# EAGLE library part TIA (library crasbe)
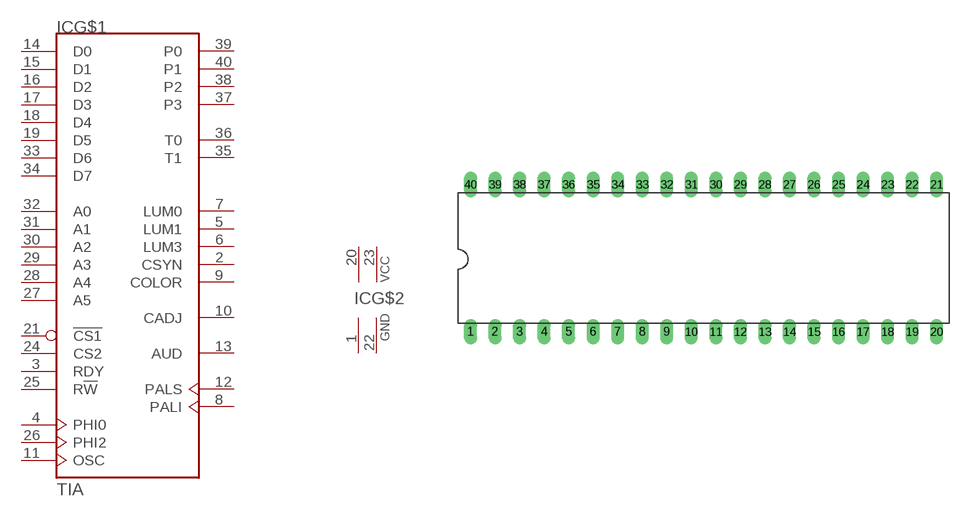
[diagram p35: symbol with the pads of DIL40; footprint DIL40]

Designator prefix IC; gates G$1=TIA G$2=VCC2GND2

## TIA-PAL  [DIL40]
1  G$2:GND  pwr
2  G$1:CSYN  out
3  G$1:RDY  in
4  G$1:PHI0  out
5  G$1:LUM1  out
6  G$1:LUM3  out
7  G$1:LUM0  out
8  G$1:PALI  in
9  G$1:COLOR  out
10  G$1:CADJ  in
11  G$1:OSC  in
12  G$1:PALS  out
13  G$1:AUD  out
14  G$1:D0
15  G$1:D1
16  G$1:D2
17  G$1:D3
18  G$1:D4
19  G$1:D5
20  G$2:VCC  pwr
21  G$1:!CS1  in
22  G$2:GND  pwr
23  G$2:VCC  pwr
24  G$1:CS2  in
25  G$1:R!W  in
26  G$1:PHI2  in
27  G$1:A5  in
28  G$1:A4  in
29  G$1:A3  in
30  G$1:A2  in
31  G$1:A1  in
32  G$1:A0  in
33  G$1:D6
34  G$1:D7
35  G$1:T1  in
36  G$1:T0  in
37  G$1:P3  in
38  G$1:P2  in
39  G$1:P0  in
40  G$1:P1  in

## Footprint DIL40 (pad centres in mm)
drill 0.813 long: 1 -24.13,-7.62; 2 -21.59,-7.62; 3 -19.05,-7.62; 4 -16.51,-7.62; 5 -13.97,-7.62; 6 -11.43,-7.62; 7 -8.89,-7.62; 8 -6.35,-7.62; 9 -3.81,-7.62; 10 -1.27,-7.62; 11 1.27,-7.62; 12 3.81,-7.62; 13 6.35,-7.62; 14 8.89,-7.62; 15 11.43,-7.62; 16 13.97,-7.62; 17 16.51,-7.62; 18 19.05,-7.62; 19 21.59,-7.62; 20 24.13,-7.62; 21 24.13,7.62; 22 21.59,7.62; 23 19.05,7.62; 24 16.51,7.62; 25 13.97,7.62; 26 11.43,7.62; 27 8.89,7.62; 28 6.35,7.62; 29 3.81,7.62; 30 1.27,7.62; 31 -1.27,7.62; 32 -3.81,7.62; 33 -6.35,7.62; 34 -8.89,7.62; 35 -11.43,7.62; 36 -13.97,7.62; 37 -16.51,7.62; 38 -19.05,7.62; 39 -21.59,7.62; 40 -24.13,7.62